# Altium footprint library Kyocera, CX3225SB.PcbLib: 1 footprints
Each footprint in its own frame and in the unit in brackets; x right, y up, seen from the top. Pads: shape width x height; smd on the part's side, far side on the other; paste and mask are expansions set on the pad; w line width, h text height; cw(c..) or ccw(c..) is an arc to the next point about the centre after c.
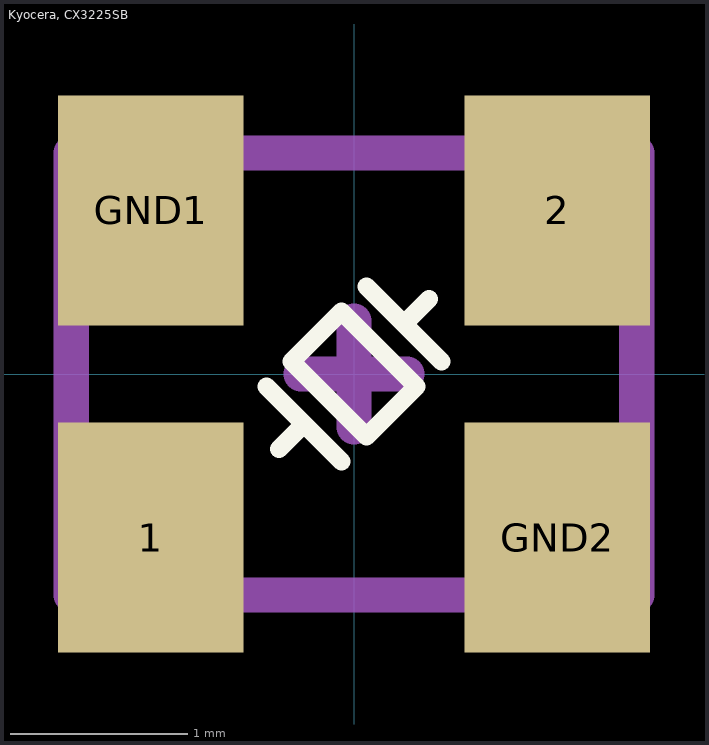
[diagram p0: the footprint, top view; thin cyan lines are the x and y axes]

## Kyocera, CX3225SB [mm] "Kyocera, CX3225SB"
height 0.55
pads (4):
  rect 1.05x1.3 smd mask+0.05: 1(-1.15,-0.925) 2(1.15,0.925) GND1(-1.15,0.925) GND2(1.15,-0.925)
Top Overlay:
  lines w0.1: -0.495,-0.071 -0.071,-0.495 ; -0.424,-0.424 -0.283,-0.283 ; 0.071,0.495 0.495,0.071 ; 0.283,0.283 0.424,0.424 ; -0.354,0.071 -0.071,0.354 0.354,-0.071 0.071,-0.354 -0.354,0.071
Top Assembly:
  lines w0.2: -1.6,-1.25 1.6,-1.25 1.6,1.25 -1.6,1.25 -1.6,-1.25
Top Designator:
  text ".Designator" at -2.5,-2.718 h1.5
Top Component Center:
  lines w0.2: -0.3,0 0.3,0 ; 0,-0.3 0,0.3
3D body "Kyocera, CX3225SB.step": height 0.55, standoff 0, extent -1.601,-1.25 1.601,1.251